# EAGLE library part MODULE-8B-32PIN (library vinoth-autodeskEagle)
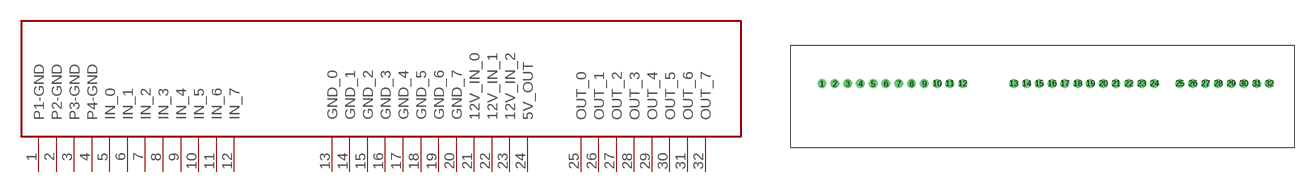
[diagram p1: symbol with the pads of MODULE-8B-32PIN; footprint MODULE-8B-32PIN]

Designator prefix -

## MODULE-8B-32PIN  [MODULE-8B-32PIN]
1  P1-GND
2  P2-GND
3  P3-GND
4  P4-GND
5  IN_0
6  IN_1
7  IN_2
8  IN_3
9  IN_4
10  IN_5
11  IN_6
12  IN_7
13  GND_0
14  GND_1
15  GND_2
16  GND_3
17  GND_4
18  GND_5
19  GND_6
20  GND_7
21  12V_IN_0
22  12V_IN_1
23  12V_IN_2
24  5V_OUT
25  OUT_0
26  OUT_1
27  OUT_2
28  OUT_3
29  OUT_4
30  OUT_5
31  OUT_6
32  OUT_7

## Footprint MODULE-8B-32PIN (pad centres in mm)
drill 0.914 pad 1.778: 1 -34.29,-2.54; 2 -31.75,-2.54; 3 -29.21,-2.54; 4 -26.67,-2.54; 5 -24.13,-2.54; 6 -21.59,-2.54; 7 -19.05,-2.54; 8 -16.51,-2.54; 9 -13.97,-2.54; 10 -11.43,-2.54; 11 -8.89,-2.54; 12 -6.35,-2.54; 13 3.81,-2.54; 14 6.35,-2.54; 15 8.89,-2.54; 16 11.43,-2.54; 17 13.97,-2.54; 18 16.51,-2.54; 19 19.05,-2.54; 20 21.59,-2.54; 21 24.13,-2.54; 22 26.67,-2.54; 23 29.21,-2.54; 24 31.75,-2.54; 25 36.83,-2.54; 26 39.37,-2.54; 27 41.91,-2.54; 28 44.45,-2.54; 29 46.99,-2.54; 30 49.53,-2.54; 31 52.07,-2.54; 32 54.61,-2.54